# Altium footprint library sim-technology.PCBLIB: 1 footprints
Each footprint in its own frame and in the unit in brackets; x right, y up, seen from the top. Pads: shape width x height; smd on the part's side, far side on the other; paste and mask are expansions set on the pad; w line width, h text height; cw(c..) or ccw(c..) is an arc to the next point about the centre after c.
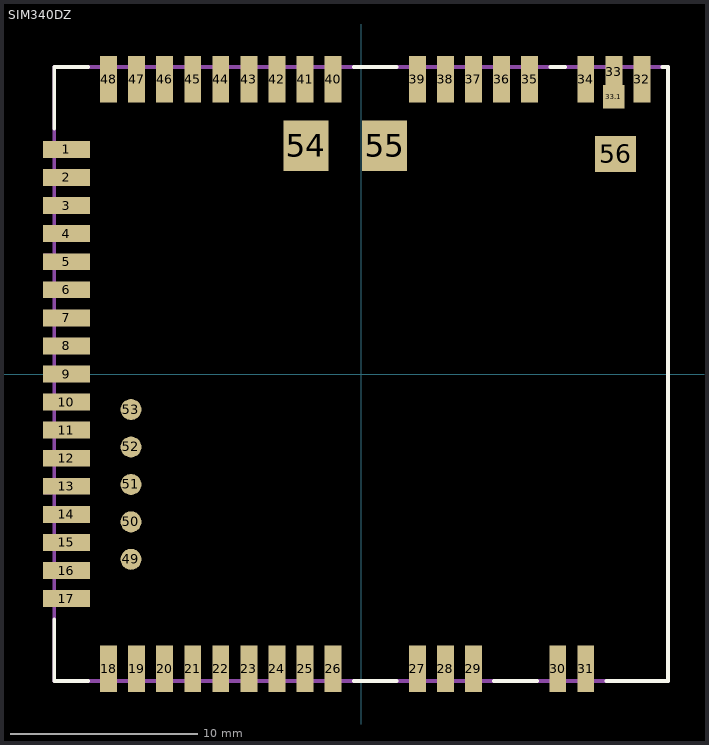
[diagram p0: the footprint, top view; thin cyan lines are the x and y axes]

## SIM340DZ [mm]
pads (57):
  rect 2.5x0.9 smd: 1(-15.75,12) 2(-15.75,10.5) 3(-15.75,9) 4(-15.75,7.5) 5(-15.75,6) 6(-15.75,4.5) 7(-15.75,3) 8(-15.75,1.5) 9(-15.75,0) 10(-15.75,-1.5) 11(-15.75,-3) 12(-15.75,-4.5) 13(-15.75,-6) 14(-15.75,-7.5) 15(-15.75,-9) 16(-15.75,-10.5) 17(-15.75,-12)
  rect 0.9x2.5 smd: 18(-13.5,-15.75) 19(-12,-15.75) 20(-10.5,-15.75) 21(-9,-15.75) 22(-7.5,-15.75) 23(-6,-15.75) 24(-4.5,-15.75) 25(-3,-15.75) 26(-1.5,-15.75) 27(3,-15.75) 28(4.5,-15.75) 29(6,-15.75) 30(10.5,-15.75) 31(12,-15.75) 32(15,15.75) 34(12,15.75) 35(9,15.75) 36(7.5,15.75) 37(6,15.75) 38(4.5,15.75) 39(3,15.75) 40(-1.5,15.75) 41(-3,15.75) 42(-4.5,15.75) 43(-6,15.75) 44(-7.5,15.75) 45(-9,15.75) 46(-10.5,15.75) 47(-12,15.75) 48(-13.5,15.75)
  rect 0.9x1.7 smd: 33(13.5,16.15)
  rect 1.15x1.25 smd: 33.1(13.5,14.805)
  rrect100% 1.12x1.12 smd: 49(-12.3,-9.9) 50(-12.3,-7.9) 51(-12.3,-5.9) 52(-12.3,-3.9) 53(-12.3,-1.9)
  rect 2.4x2.7 smd: 54(-2.95,12.2) 55(1.25,12.2)
  rect 2.18x1.91 smd: 56(13.595,11.76)
Top Overlay:
  lines w0.203: -16.4,-13.1 -16.4,-16.4 -14.6,-16.4 ; -16.4,13.1 -16.4,16.4 -14.6,16.4 ; -0.4,-16.4 1.9,-16.4 ; -0.4,16.4 1.9,16.4 ; 7.1,-16.4 9.4,-16.4 ; 10.1,16.4 10.9,16.4 ; 13.1,-16.4 16.4,-16.4 16.4,16.4 16.1,16.4
Mechanical 16:
  rectangle: 14.575,16.51 15.425,16.975
  rectangle: 13.075,16.51 13.925,16.975
  rectangle: 11.575,16.51 12.425,16.975
  rectangle: 8.575,16.51 9.425,16.975
  rectangle: 7.075,16.51 7.925,16.975
  rectangle: 5.575,16.51 6.425,16.975
  rectangle: 4.075,16.51 4.925,16.975
  rectangle: 2.575,16.51 3.425,16.975
  rectangle: -1.925,16.51 -1.075,16.975
  rectangle: -3.425,16.51 -2.575,16.975
  rectangle: -4.925,16.51 -4.075,16.975
  rectangle: -6.425,16.51 -5.575,16.975
  rectangle: -7.925,16.51 -7.075,16.975
  rectangle: -9.425,16.51 -8.575,16.975
  rectangle: -10.925,16.51 -10.075,16.975
  rectangle: -12.425,16.51 -11.575,16.975
  rectangle: -13.925,16.51 -13.075,16.975
  region: -16.51,11.575 -16.51,12.425 -16.975,12.425 -16.975,11.575
  region: -16.51,10.075 -16.51,10.925 -16.975,10.925 -16.975,10.075
  region: -16.51,8.575 -16.51,9.425 -16.975,9.425 -16.975,8.575
  region: -16.51,7.075 -16.51,7.925 -16.975,7.925 -16.975,7.075
  region: -16.51,5.575 -16.51,6.425 -16.975,6.425 -16.975,5.575
  region: -16.51,4.075 -16.51,4.925 -16.975,4.925 -16.975,4.075
  region: -16.51,2.575 -16.51,3.425 -16.975,3.425 -16.975,2.575
  region: -16.51,1.075 -16.51,1.925 -16.975,1.925 -16.975,1.075
  region: -16.51,-0.425 -16.51,0.425 -16.975,0.425 -16.975,-0.425
  region: -16.51,-1.925 -16.51,-1.075 -16.975,-1.075 -16.975,-1.925
  region: -16.51,-3.425 -16.51,-2.575 -16.975,-2.575 -16.975,-3.425
  region: -16.51,-4.925 -16.51,-4.075 -16.975,-4.075 -16.975,-4.925
  region: -16.51,-6.425 -16.51,-5.575 -16.975,-5.575 -16.975,-6.425
  region: -16.51,-7.925 -16.51,-7.075 -16.975,-7.075 -16.975,-7.925
  region: -16.51,-9.425 -16.51,-8.575 -16.975,-8.575 -16.975,-9.425
  region: -16.51,-10.925 -16.51,-10.075 -16.975,-10.075 -16.975,-10.925
  region: -16.51,-12.425 -16.51,-11.575 -16.975,-11.575 -16.975,-12.425
  region: -13.075,-16.51 -13.925,-16.51 -13.925,-16.975 -13.075,-16.975
  region: -11.575,-16.51 -12.425,-16.51 -12.425,-16.975 -11.575,-16.975
  region: -10.075,-16.51 -10.925,-16.51 -10.925,-16.975 -10.075,-16.975
  region: -8.575,-16.51 -9.425,-16.51 -9.425,-16.975 -8.575,-16.975
  region: -7.075,-16.51 -7.925,-16.51 -7.925,-16.975 -7.075,-16.975
  region: -5.575,-16.51 -6.425,-16.51 -6.425,-16.975 -5.575,-16.975
  region: -4.075,-16.51 -4.925,-16.51 -4.925,-16.975 -4.075,-16.975
  region: -2.575,-16.51 -3.425,-16.51 -3.425,-16.975 -2.575,-16.975
  region: -1.075,-16.51 -1.925,-16.51 -1.925,-16.975 -1.075,-16.975
  region: 3.425,-16.51 2.575,-16.51 2.575,-16.975 3.425,-16.975
  region: 4.925,-16.51 4.075,-16.51 4.075,-16.975 4.925,-16.975
  region: 6.425,-16.51 5.575,-16.51 5.575,-16.975 6.425,-16.975
  region: 10.925,-16.51 10.075,-16.51 10.075,-16.975 10.925,-16.975
  region: 12.425,-16.51 11.575,-16.51 11.575,-16.975 12.425,-16.975
  lines w0.203: -16.4,-16.4 16.4,-16.4 16.4,16.4 -16.4,16.4 -16.4,-16.4